# EAGLE library part CY8CMBR3116 (library T-Stick)
CY8CMBR3116 QFN24 4x4
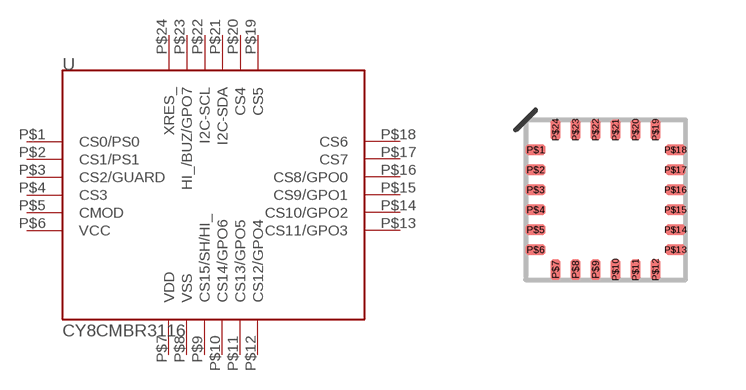
[diagram p4: symbol with the pads of CY8CMBR3116; footprint CY8CMBR3116]

Designator prefix -

## CY8CMBR3116  [CY8CMBR3116]
P$1  CS0/PS0
P$2  CS1/PS1
P$3  CS2/GUARD
P$4  CS3
P$5  CMOD
P$6  VCC
P$7  VDD
P$8  VSS
P$9  CS15/SH/HI_
P$10  CS14/GPO6
P$11  CS13/GPO5
P$12  CS12/GPO4
P$13  CS11/GPO3
P$14  CS10/GPO2
P$15  CS9/GPO1
P$16  CS8/GPO0
P$17  CS7
P$18  CS6
P$19  CS5
P$20  CS4
P$21  I2C-SDA
P$22  I2C-SCL
P$23  HI_/BUZ/GPO7
P$24  XRES_

## Footprint CY8CMBR3116 (pad centres in mm)
QFN24-4x4
smd 0.5 x 0.25: P$1 0.25,-0.75; P$2 0.25,-1.25; P$3 0.25,-1.75; P$4 0.25,-2.25; P$5 0.25,-2.75; P$6 0.25,-3.25; P$13 3.75,-3.25; P$14 3.75,-2.75; P$15 3.75,-2.25; P$16 3.75,-1.75; P$17 3.75,-1.25; P$18 3.75,-0.75
smd 0.25 x 0.5: P$7 0.75,-3.75; P$8 1.25,-3.75; P$9 1.75,-3.75; P$10 2.25,-3.75; P$11 2.75,-3.75; P$12 3.25,-3.75; P$19 3.25,-0.25; P$20 2.75,-0.25; P$21 2.25,-0.25; P$22 1.75,-0.25; P$23 1.25,-0.25; P$24 0.75,-0.25